# Altium schematic symbol library Schlib1.SchLib: 1 symbol
Pins are listed as number, name and electrical type; pins without a type are passive.

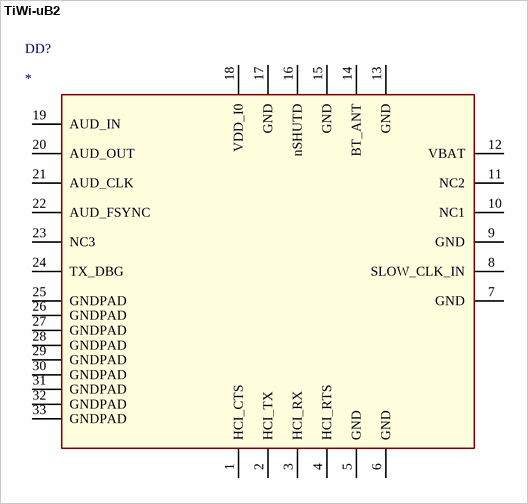
[diagram p0: symbol TiWi-uB2]

## TiWi-uB2
designator DD?
footprint TiWi-uB2
pins: 1 HCI_CTS "Resistor", 2 HCI_TX "Resistor", 3 HCI_RX "Resistor", 4 HCI_RTS "Resistor", 5 GND "Resistor", 6 GND "Resistor", 7 GND "Resistor", 8 SLOW_CLK_IN "Resistor", 9 GND "Resistor", 10 NC1 "Resistor", 11 NC2 "Resistor", 12 VBAT "Resistor", 13 GND "Resistor", 14 BT_ANT "Resistor", 15 GND "Resistor", 16 nSHUTD "Resistor", 17 GND "Resistor", 18 VDD_I0 "Resistor", 19 AUD_IN "Resistor", 20 AUD_OUT "Resistor", 21 AUD_CLK "Resistor", 22 AUD_FSYNC "Resistor", 23 NC3 "Resistor", 24 TX_DBG "Resistor", 25 GNDPAD "Resistor", 26 GNDPAD "Resistor", 27 GNDPAD "Resistor", 28 GNDPAD "Resistor", 29 GNDPAD "Resistor", 30 GNDPAD "Resistor", 31 GNDPAD "Resistor", 32 GNDPAD "Resistor", 33 GNDPAD "Resistor"